# Altium footprint library PCB - SMD - Misc - SD_CARD_104031-0811.PCBLIB: 1 footprints
Each footprint in its own frame and in the unit in brackets; x right, y up, seen from the top. Pads: shape width x height; smd on the part's side, far side on the other; paste and mask are expansions set on the pad; w line width, h text height; cw(c..) or ccw(c..) is an arc to the next point about the centre after c.
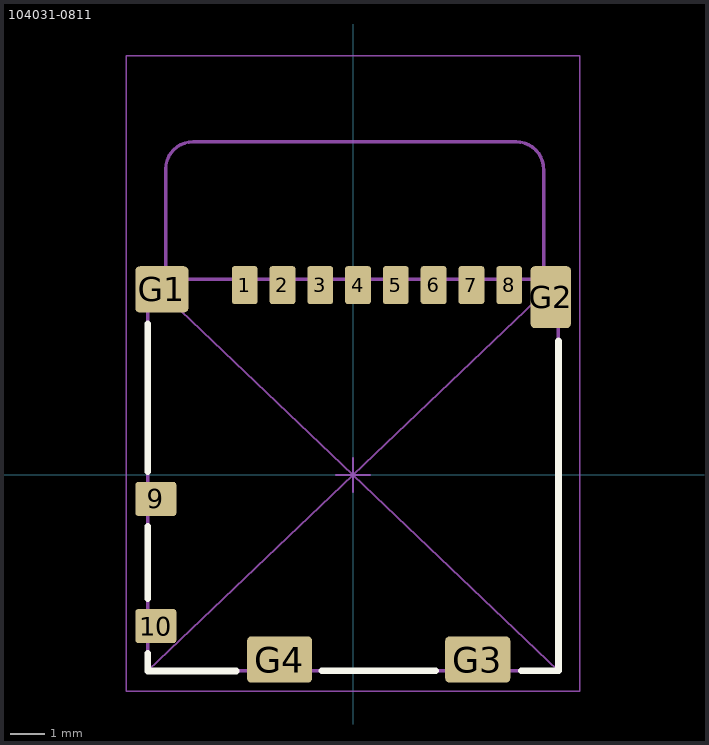
[diagram p0: the footprint, top view; thin cyan lines are the x and y axes]

## 104031-0811 [mm]
height 1.46
pads (14):
  rrect20% 0.75x1.1 smd: 1(-3.155,5.525) 2(-2.055,5.525) 3(-0.955,5.525) 4(0.145,5.525) 5(1.245,5.525) 6(2.345,5.525) 7(3.445,5.525) 8(4.545,5.525)
  rrect20% 1.2x1 smd: 9(-5.74,-0.7) 10(-5.74,-4.4)
  rrect20% 1.55x1.35 smd: G1(-5.565,5.4)
  rrect20% 1.17x1.8 smd: G2(5.755,5.175)
  rrect20% 1.9x1.35 smd: G3(3.63,-5.375) G4(-2.14,-5.375)
Top Overlay:
  lines w0.2: -5.975,-5.2 -5.975,-5.705 -3.4,-5.705 ; -5.975,-3.6 -5.975,-1.5 ; -5.975,0.1 -5.975,4.4 ; -0.9,-5.7 2.4,-5.7 ; 4.9,-5.7 5.98,-5.7 5.98,3.9
M5 Assembly Top:
  lines w0.1: -5.565,5.7 0,5.7 ; -5.455,5.7 -5.455,8.9 ; 5.545,5.7 5.545,8.9 ccw(c4.745,8.9) 4.745,9.7 -4.655,9.7 ; -5.455,8.9 cw(c-4.655,8.9) -4.655,9.7 ; -5.455,8.9 cw(c-4.655,8.9) -4.655,9.7 ; -5.975,-5.7 5.975,-5.7 5.975,5.7 -5.975,5.7 -5.975,-5.7
  text ".Designator" at -2.1,-0.7 h1.52
Mechanical 15:
  lines w0.05: -5.975,-5.7 5.975,5.7 ; -5.975,5.7 5.975,-5.7 ; -0.5,0 0.5,0 ; -0.1,5.7 0.1,5.7 ; 0,-0.5 0,0.5 ; 0,5.6 0,5.8 ; -6.6,-6.3 -6.6,12.2 6.6,12.2 6.6,-6.3 -6.6,-6.3
3D body "SW3dPS-Micro_SD.STEP": height 1.45, standoff 0.47, extent -5.5,-5.3 5.5,9.7
3D body "1040310811.stp": height 1.43, standoff -0.02, extent -5.975,-5.7 5.975,5.7